# Altium integrated library PZ-MCU-TFT7.0-SSD1963.IntLib: 42 symbols
Pins are listed as number, name and electrical type; pins without a type are passive.

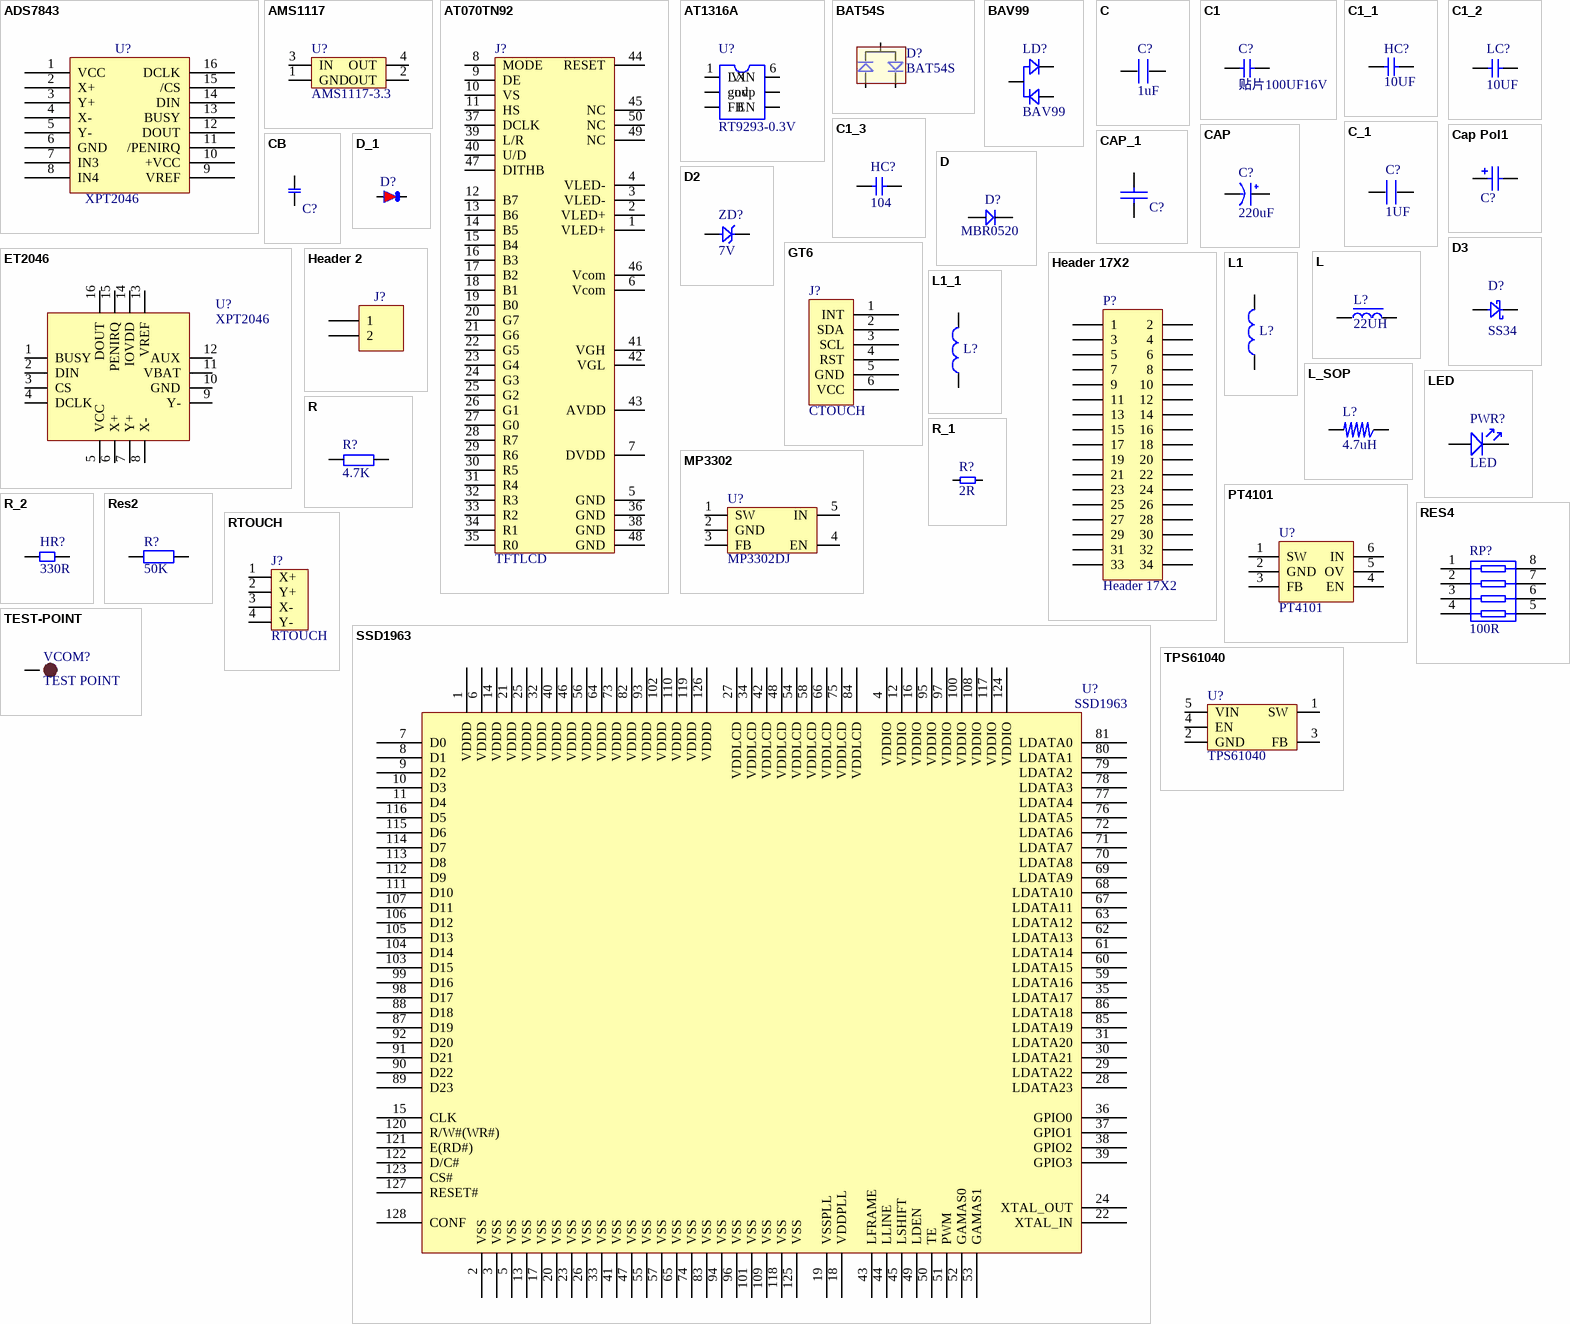
[diagram p0: symbols ADS7843 to TPS61040]

## ADS7843
designator U?, comment XPT2046
footprint SSOP-16
footprint SSOP-16
pins: 1 VCC, 2 X+, 3 Y+, 4 X-, 5 Y-, 6 GND, 7 IN3, 8 IN4, 9 VREF, 10 +VCC, 11 /PENIRQ, 12 DOUT, 13 BUSY, 14 DIN, 15 /CS, 16 DCLK

## AMS1117
designator U?, comment AMS1117-3.3
footprint AMS1117
pins: 1 GND, 2 OUT, 3 IN, 4 OUT

## AT070TN92
designator J?, comment TFTLCD
7' TFTLCD
footprint FPC-TOP50 (FPCTOP;0.5mm;)
pins: 1 VLED+, 2 VLED+, 3 VLED-, 4 VLED-, 5 GND, 6 Vcom, 7 DVDD, 8 MODE, 9 DE, 10 VS, 11 HS, 12 B7, 13 B6, 14 B5, 15 B4, 16 B3, 17 B2, 18 B1, 19 B0, 20 G7, 21 G6, 22 G5, 23 G4, 24 G3, 25 G2, 26 G1, 27 G0, 28 R7, 29 R6, 30 R5, 31 R4, 32 R3, 33 R2, 34 R1, 35 R0, 36 GND, 37 DCLK, 38 GND, 39 L/R, 40 U/D, 41 VGH, 42 VGL, 43 AVDD, 44 RESET, 45 NC, 46 Vcom, 47 DITHB, 48 GND, 49 NC, 50 NC
2 alternate drawings of the same symbol

## AT1316A
designator U?, comment RT9293-0.3V
footprint TSOT-23-6
pins: 1 LX, 2 gnd, 3 FB, 4 EN, 5 ovp, 6 VIN

## BAT54S
designator D?
双肖特基二极管
footprint SOT-23 (SOT-23; 3 Leads; Body 3.0 x 2.5 mm, inc. leads (LxW max))
pins: 1, 2, 3

## BAV99
designator LD?
footprint SOT-23
pins: 1, 2, 3

## C
designator C?, comment 1uF
footprint 0603P
footprint 0805
footprint CC5.08 (CAP0.1)
footprint CC4.572 (222/332)
footprint 1206
footprint 1210
footprint CC6.096
footprint CC7.62
footprint CVAR (4MM*6.6MM)
pins: 1, 2

## C1
designator C?, comment 贴片100UF16V
footprint 0603
footprint 0805
footprint 铝制电容贴片 (Footprint not found)
pins: 1, 2 (io)

## C1_1
designator HC?, comment 10UF
footprint 0603
footprint 0805
footprint 1206
pins: 1, 2 (io)

## C1_2
designator LC?, comment 10UF
footprint 0603
footprint 1206
pins: 1, 2 (io)

## C1_3
designator HC?, comment 104
footprint 0603
footprint 0805
pins: 1, 2 (io)

## C_1
designator C?, comment 1UF
footprint 0603P
pins: 1, 2

## CAP
designator C?, comment 220uF
footprint C1206
footprint CAP2.54 (RB.1/.2)
footprint CAP5.08 (RB.2/.4)
footprint CAP7.62 (25V 2200uF)
footprint CAP10.16 (50V10000uF)
footprint CAP10.9 (50V 2200uF)
footprint CAP3.0 (100V 10uF)
footprint CAP8.0 (25V/4700uF)
footprint CAP8.0_2 (50V/4700uF)
footprint C7040 (7MM*4MM)
footprint CC1010 (SMD;W:10mm;L:10mm;)
footprint CC6.56.5 (SMD;W:6.5mm;L:6.5mm;)
footprint CC88 (SMD;W:8mm;L:8mm;)
pins: 1 VCC, 2 GND

## Cap Pol1
designator C?, comment 贴片100UF16V  (value not drawn)
Polarized Capacitor (Radial); Published: *; Revision: *; Publisher: *; Value: *
footprint 3528
footprint TAN-B
footprint CC6 (铝制电容贴片)
pins: 1, 2
2 alternate drawings of the same symbol

## CAP_1
designator C?, comment 104  (value not drawn)
Capacitor
footprint 0603
pins: 1, 2
2 alternate drawings of the same symbol

## CB
designator C?, comment 104  (value not drawn)
footprint CB1
footprint CB2
footprint 0603
pins: 1, 2
2 alternate drawings of the same symbol

## D
designator D?, comment MBR0520
1N4148
footprint SOD-123
footprint DIODE_SOP (4148)
footprint DIODE-L (6A10)
footprint DIODE-M (1N5822)
footprint DIODE_S (1N4007)
footprint DIODE_3*5.3 (ME:SS14/SS24;L:5.3mm;W:3mm;)
footprint DIODE_4*5.6 (ME:RS2J.L:5.6mm;W:4mm)
footprint DIODE_6.2*8.13 (ME:RS2J.L:8.13mm;W:6.2mm)
pins: 1, 2

## D2
designator ZD?, comment 7V
footprint D1206
footprint SOD-123
pins: 1 (io), 2 (io)

## D3
designator D?, comment SS34
footprint SOD-123
footprint SMA
footprint SMC
footprint D1808A
pins: 1, 2

## D_1
designator D?, comment SS34  (value not drawn)
footprint 4148
footprint 4007
footprint D1808A
pins: 1, 2
2 alternate drawings of the same symbol

## ET2046
designator U?, comment XPT2046
footprint QFN32-16
footprint QFN32-16
pins: 1 BUSY, 2 DIN, 3 CS, 4 DCLK, 5 VCC, 6 X+, 7 Y+, 8 X-, 9 Y-, 10 GND, 11 VBAT, 12 AUX, 13 VREF, 14 IOVDD, 15 PENIRQ, 16 DOUT

## GT6
designator J?, comment CTOUCH
footprint CTOUCH_6_BTM
footprint CTOUCH_6_TOP
pins: 1 INT, 2 SDA, 3 SCL, 4 RST, 5 GND, 6 VCC

## Header 2
designator J?
Header, 2-Pin; LatestRevisionDate: 17-Jul-2002; LatestRevisionNote: Re-released for DXP Platform.; Publisher: Altium Limited
footprint HDR1X2 (Connector; Header; 2 Position)
footprint SIP2
pins: 1, 2

## Header 17X2
designator P?
Header, 17-Pin, Dual row; LatestRevisionDate: 17-Jul-2002; LatestRevisionNote: Re-released for DXP Platform.; Publisher: Altium Limited
footprint HDR2X17 (Connector; Header; 17x2 Position)
signal-integrity model Connector
pins: 1, 2, 3, 4, 5, 6, 7, 8, 9, 10, 11, 12, 13, 14, 15, 16, 17, 18, 19, 20, 21, 22, 23, 24, 25, 26, 27, 28, 29, 30, 31, 32, 33, 34

## L
designator L?, comment 22UH
footprint L7.5*7.5
footprint L12*12
footprint CDRH74-331M
pins: 1 (io), 2 (io)

## L1
designator L?, comment BEAD/80R  (value not drawn)
footprint L100
footprint 1206
pins: 1, 2
2 alternate drawings of the same symbol

## L1_1
designator L?, comment 22UH  (value not drawn)
footprint L100
footprint CDRH74-331M (Footprint not found)
pins: 1, 2
2 alternate drawings of the same symbol

## L_SOP
designator L?, comment 4.7uH
footprint L_SOPL (L_LARGE)
footprint L_SOPS (L_4*4)
footprint L10 (10mH)
footprint L_SOP74 (7.4*7.4)
footprint L_CD43 (4mm*4mm)
pins: 1, 2

## LED
designator PWR?
footprint SMDLED
footprint LED-DIP (PIN:2.54MM;H:5MM;)
footprint SMDLED-0603
pins: 1, 2

## MP3302
designator U?, comment MP3302DJ
LCD背光IC
footprint SOT-23-5
pins: 1 SW, 2 GND, 3 FB, 4 EN, 5 IN

## PT4101
designator U?
footprint SOT-23-6
pins: 1 SW, 2 GND, 3 FB, 4 EN, 5 OV, 6 IN
2 alternate drawings of the same symbol

## R
designator R?, comment 4.7K
footprint 0805
footprint 0603P
footprint RL (10o/0.7uH)
footprint R16.0 (RX/1W)
footprint 1206
footprint 1210
footprint R20.0 (RX/2W)
footprint R10.16 (STD)
footprint RLN9 (13.5mm*5.1mm)
pins: 1, 2

## R_1
designator R?, comment 2R
footprint 1/8W
footprint 1/4W
footprint R3
footprint 1206
pins: 1, 2
2 alternate drawings of the same symbol

## R_2
designator HR?, comment 330R
footprint 0603
footprint 0805
footprint 1005
footprint 1210
pins: 1, 2

## Res2
designator R?, comment 50K
Resistor; Published: 8-Jun-2000; LatestRevisionDate: 17-Jul-2002; LatestRevisionNote: Re-released for DXP Platform.; PackageReference: AXIAL-0.4; Publisher: Altium Limited; Value: 50K
footprint 0603
footprint 0603P
pins: 1, 2

## RES4
designator RP?, comment 100R
footprint 0603-4
footprint 0603-4
pins: 1, 2, 3, 4, 5, 6, 7, 8

## RTOUCH
designator J?
7' 电阻触摸屏
footprint FFC/SM1.0-4
pins: 1 X+, 2 Y+, 3 X-, 4 Y-

## SSD1963
designator U?
footprint TSQFP40P1620X1620X160-128N (TSQFP, 128-Leads, Body 16.2x16.2mm (max), Pitch 0.40mm, IPC Medium Density)
pins: 1 VDDD, 2 VSS, 3 VSS, 4 VDDIO, 5 VSS, 6 VDDD, 7 D0, 8 D1, 9 D2, 10 D3, 11 D4, 12 VDDIO, 13 VSS, 14 VDDD, 15 CLK, 16 VDDIO, 17 VSS, 18 VDDPLL, 19 VSSPLL, 20 VSS, 21 VDDD, 22 XTAL_IN, 23 VSS, 24 XTAL_OUT, 25 VDDD, 26 VSS, 27 VDDLCD, 28 LDATA23, 29 LDATA22, 30 LDATA21, 31 LDATA20, 32 VDDD, 33 VSS, 34 VDDLCD, 35 LDATA17, 36 GPIO0, 37 GPIO1, 38 GPIO2, 39 GPIO3, 40 VDDD, 41 VSS, 42 VDDLCD, 43 LFRAME, 44 LLINE, 45 LSHIFT, 46 VDDD, 47 VSS, 48 VDDLCD, 49 LDEN, 50 TE, 51 PWM, 52 GAMAS0, 53 GAMAS1, 54 VDDLCD, 55 VSS, 56 VDDD, 57 VSS, 58 VDDLCD, 59 LDATA16, 60 LDATA15, 61 LDATA14, 62 LDATA13, 63 LDATA12, 64 VDDD, 65 VSS, 66 VDDLCD, 67 LDATA11, 68 LDATA10, 69 LDATA9, 70 LDATA8, 71 LDATA7, 72 LDATA6, 73 VDDD, 74 VSS, 75 VDDLCD, 76 LDATA5, 77 LDATA4, 78 LDATA3, 79 LDATA2, 80 LDATA1, 81 LDATA0, 82 VDDD, 83 VSS, 84 VDDLCD, 85 LDATA19, 86 LDATA18, 87 D19, 88 D18, 89 D23, 90 D22, 91 D21, 92 D20, 93 VDDD, 94 VSS, 95 VDDIO, 96 VSS, 97 VDDIO, 98 D17, 99 D16, 100 VDDIO, 101 VSS, 102 VDDD, 103 D15, 104 D14, 105 D13, 106 D12, 107 D11, 108 VDDIO, 109 VSS, 110 VDDD, 111 D10, 112 D9, 113 D8, 114 D7, 115 D6, 116 D5, 117 VDDIO, 118 VSS, 119 VDDD, 120 R/W#(WR#), 121 E(RD#), 122 D/C#, 123 CS#, 124 VDDIO, 125 VSS, 126 VDDD, 127 RESET#, 128 CONF

## TEST-POINT
designator VCOM?, comment TEST POINT
测试点
footprint TP-1.0 (1.0mm)
footprint TP-1.5 (1.5mm)
pins: 1

## TPS61040
designator U?
DC DC Step Up IC
footprint SOT-23-5
pins: 1 SW, 2 GND, 3 FB, 4 EN, 5 VIN

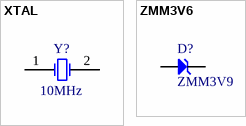
[diagram p1: symbols XTAL to ZMM3V6]

## XTAL
designator Y?, comment 10MHz
Crystal Oscillator; Published: 8-Jun-2000; LatestRevisionDate: 17-Jul-2002; LatestRevisionNote: Re-released for DXP Platform.; Publisher: Altium Limited
footprint XTAL_tiepian
simulation model XTAL (Spice Subcircuit)
pins: 1 OSC1, 2 OSC2

## ZMM3V6
designator D?, comment ZMM3V9
ZMM3V6
footprint DIODE_ZMMx (ZMM3V6)
pins: 1, 2